# EAGLE library part OPA690 (library kamiki)
Wideband, Voltage Feedback OPERATIONAL AMPLIFIER With Disable
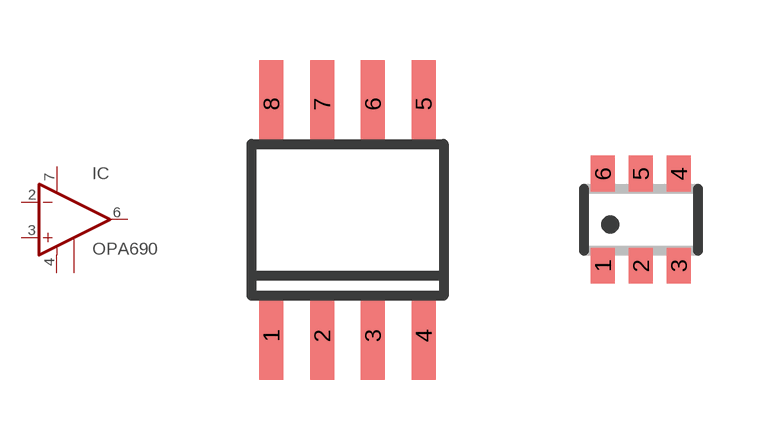
[diagram p23: symbol with the pads of SO08; footprints SO08, SOT23/6]

Designator prefix IC

## OPA690D  [SO08]
2  -IN  in
3  +IN  in
4  V-  pwr
6  OUT  out
7  V+  pwr
8  -DISABLE  in

## OPA690DBV  [SOT23/6]
1  OUT  out
2  V-  pwr
3  +IN  in
4  -IN  in
5  -DISABLE  in
6  V+  pwr

## Footprint SO08 (pad centres in mm)
Small Outline Package 8
smd 0.6 x 2.2: 1 -1.905,-2.9; 2 -0.635,-2.9; 3 0.635,-2.9; 4 1.905,-2.9; 5 1.905,2.9; 6 0.635,2.9; 7 -0.635,2.9; 8 -1.905,2.9

## Footprint SOT23/6 (pad centres in mm)
Small Outline Transistor 6 lead
smd 0.6 x 0.9: 1 -0.95,-1.15; 2 0,-1.15; 3 0.95,-1.15; 4 0.95,1.15; 5 0,1.15; 6 -0.95,1.15